# Altium schematic symbol library SCH - MCU - ATMEGA - MICROCHIP ATMEGA16U2-AU TQFP32.SchLib: 1 symbol
Pins are listed as number, name and electrical type; pins without a type are passive.

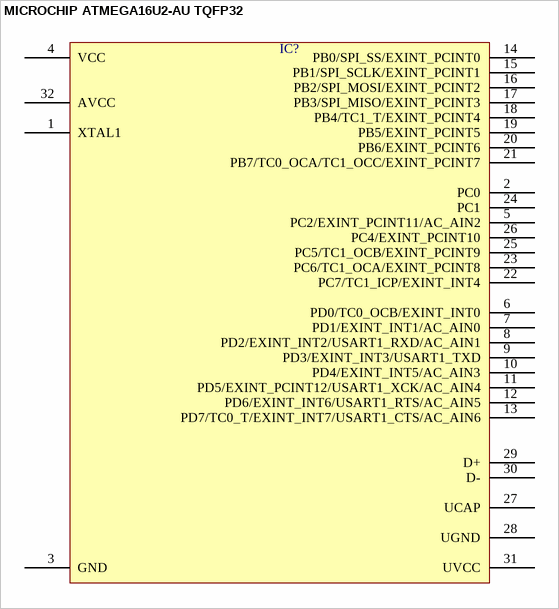
[diagram p0: symbol MICROCHIP ATMEGA16U2-AU TQFP32]

## MICROCHIP ATMEGA16U2-AU TQFP32
designator IC?  (value not drawn)
pins: 1 XTAL1, 2 PC0, 3 GND, 4 VCC, 5 PC2/EXINT_PCINT11/AC_AIN2, 6 PD0/TC0_OCB/EXINT_INT0, 7 PD1/EXINT_INT1/AC_AIN0, 8 PD2/EXINT_INT2/USART1_RXD/AC_AIN1, 9 PD3/EXINT_INT3/USART1_TXD, 10 PD4/EXINT_INT5/AC_AIN3, 11 PD5/EXINT_PCINT12/USART1_XCK/AC_AIN4, 12 PD6/EXINT_INT6/USART1_RTS/AC_AIN5, 13 PD7/TC0_T/EXINT_INT7/USART1_CTS/AC_AIN6, 14 PB0/SPI_SS/EXINT_PCINT0, 15 PB1/SPI_SCLK/EXINT_PCINT1, 16 PB2/SPI_MOSI/EXINT_PCINT2, 17 PB3/SPI_MISO/EXINT_PCINT3, 18 PB4/TC1_T/EXINT_PCINT4, 19 PB5/EXINT_PCINT5, 20 PB6/EXINT_PCINT6, 21 PB7/TC0_OCA/TC1_OCC/EXINT_PCINT7, 22 PC7/TC1_ICP/EXINT_INT4, 23 PC6/TC1_OCA/EXINT_PCINT8, 24 PC1, 25 PC5/TC1_OCB/EXINT_PCINT9, 26 PC4/EXINT_PCINT10, 27 UCAP, 28 UGND, 29 D+, 30 D-, 31 UVCC, 32 AVCC